# EAGLE library part TPS54308 (library EXCISS)
TPS54308 4.5V to 28V Input, 3A Output, Synchronous 350kHz FCCM Step-Down Converter Links Datasheet <http://www.ti.com/lit/gpn/tps54308> Product website <http://www.ti.com/product/TPS54308>
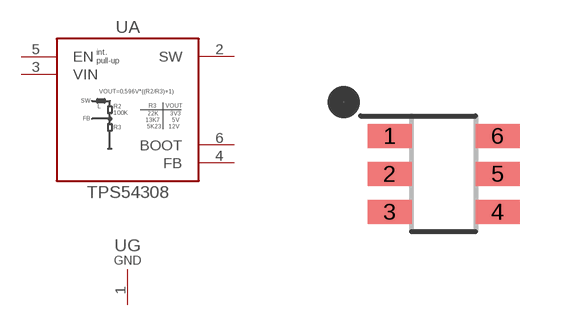
[diagram p22: symbol with the pads of DDC(R-PDSO-G6); footprint DDC(R-PDSO-G6)]

Designator prefix U; gates G=POWER_GND A=TPS54308

## TPS54308DDC (OC_MOUSER: 595-TPS54308DDC)  [DDC(R-PDSO-G6)]
1  G:GND  pwr
2  A:SW  out
3  A:VIN  pwr
4  A:FB  in
5  A:EN  in
6  A:BOOT  out

## Footprint DDC(R-PDSO-G6) (pad centres in mm)
smd 1.1 x 0.6: 1 -1.35,0.95; 2 -1.35,0; 3 -1.35,-0.95; 4 1.35,-0.95; 5 1.35,0; 6 1.35,0.95